# Altium footprint library SOIC-20_208mil.PcbLib: 1 footprints
Each footprint in its own frame and in the unit in brackets; x right, y up, seen from the top. Pads: shape width x height; smd on the part's side, far side on the other; paste and mask are expansions set on the pad; w line width, h text height; cw(c..) or ccw(c..) is an arc to the next point about the centre after c.
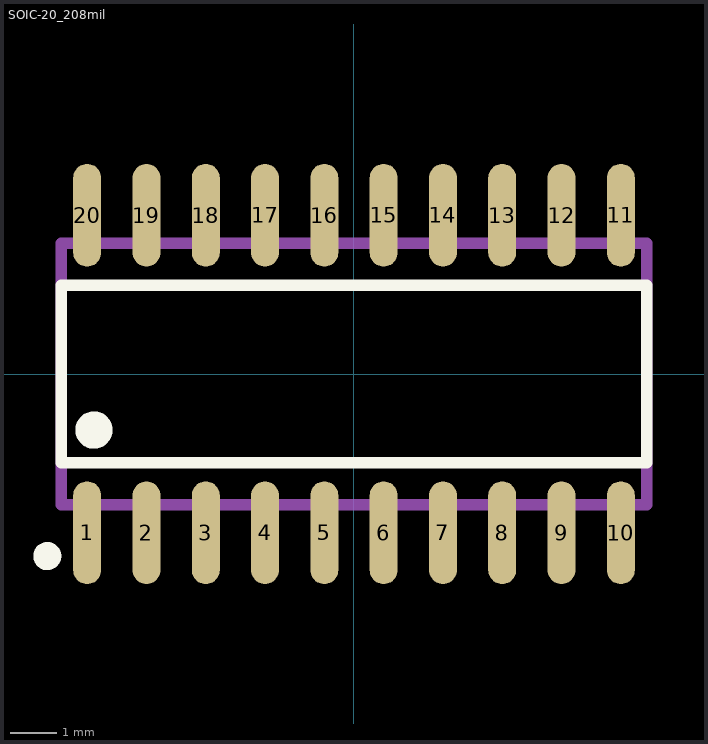
[diagram p0: the footprint, top view; thin cyan lines are the x and y axes]

## SOIC-20_208mil [mm]
pads (20):
  oval 0.6x2.2 smd: 1(-5.715,-3.4) 2(-4.445,-3.4) 3(-3.175,-3.4) 4(-1.905,-3.4) 5(-0.635,-3.4) 6(0.635,-3.4) 7(1.905,-3.4) 8(3.175,-3.4) 9(4.445,-3.4) 10(5.715,-3.4) 11(5.715,3.4) 12(4.445,3.4) 13(3.175,3.4) 14(1.905,3.4) 15(0.635,3.4) 16(-0.635,3.4) 17(-1.905,3.4) 18(-3.175,3.4) 19(-4.445,3.4) 20(-5.715,3.4)
Top Overlay:
  circle w0.4: c-5.57,-1.2 r0.2
  circle w0.3: c-6.57,-3.9 r0.15
  lines w0.254: -6.27,-1.9 -6.27,1.9 6.27,1.9 6.27,-1.9 -6.27,-1.9
Mechanical 13:
  lines w0.254: -6.27,-2.8 -6.27,2.8 6.27,2.8 6.27,-2.8 -6.27,-2.8